# Altium footprint library XT-60.PcbLib: 1 footprints
Each footprint in its own frame and in the unit in brackets; x right, y up, seen from the top. Pads: shape width x height; smd on the part's side, far side on the other; paste and mask are expansions set on the pad; w line width, h text height; cw(c..) or ccw(c..) is an arc to the next point about the centre after c.
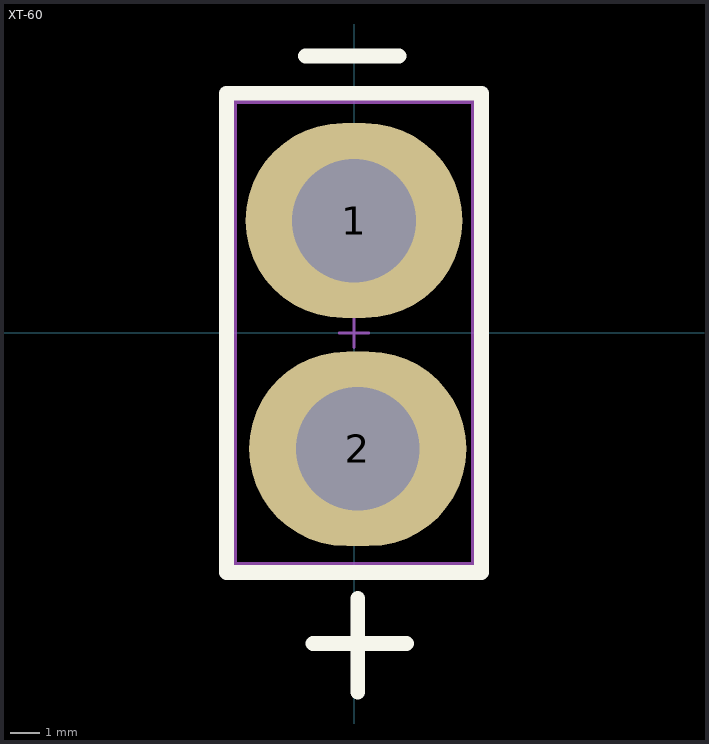
[diagram p0: the footprint, top view; thin cyan lines are the x and y axes]

## XT-60 [mil]
height 300
pads (2):
  oval 290x260 hole 165: 1(0,150) 2(5,-155)
Top Overlay:
  lines w20: -65,370 60,370 ; -55,-415 70,-415 ; 5,-480 5,-355 ; -170,-320 170,-320 170,320 -170,320 -170,-320
Top Assembly:
  lines w7.87: -163.94,-313.68 163.94,-313.68 163.94,313.68 -163.94,313.68 -163.94,-313.68
Top 3D Body:
  lines w7.87: -160,-309.74 160,-309.74 160,309.74 -160,309.74 -160,-309.74
Top Courtyard:
  lines w7.87: -163.94,-313.68 163.94,-313.68 163.94,313.68 -163.94,313.68 -163.94,-313.68
Top Component Center:
  lines w3.94: -19.68,0 19.68,0 ; 0,-19.68 0,19.68
3D body "Conn_SparkFun_PRT-10474_eec.STEP": height 10, standoff 0, extent -163.94,-313.68 163.94,313.68